# Altium footprint library MOLEX_KK254.PcbLib: 10 footprints
Each footprint in its own frame and in the unit in brackets; x right, y up, seen from the top. Pads: shape width x height; smd on the part's side, far side on the other; paste and mask are expansions set on the pad; w line width, h text height; cw(c..) or ccw(c..) is an arc to the next point about the centre after c.
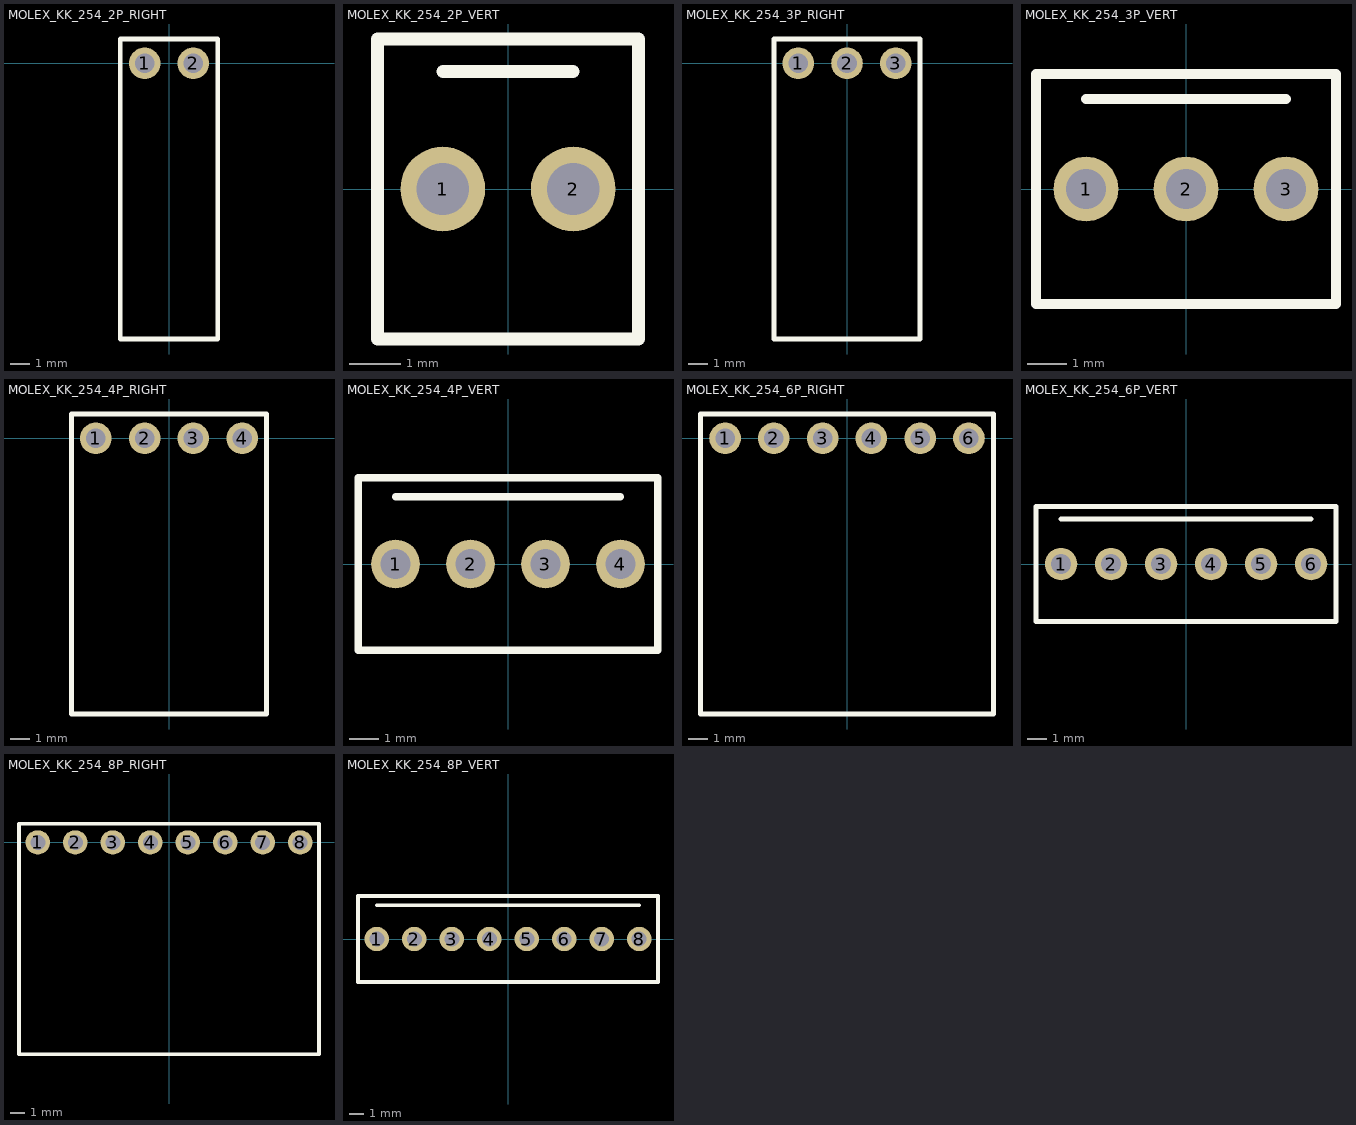
[diagram p0: the footprints below, top view; thin cyan lines are the x and y axes]

## MOLEX_KK_254_2P_RIGHT [mil]
pads (2):
  round 65 hole 40: 1(-50,0) 2(50,0)
Top Overlay:
  lines w10: -100,-565 -100,50 100,50 100,-565 -100,-565
3D body "022124022.stp": height 233, standoff -146.61, extent -99.99,-568.12 100.01,12.09

## MOLEX_KK_254_2P_VERT [mil]
pads (2):
  round 65 hole 40: 1(-50,0) 2(50,0)
Top Overlay:
  lines w10: -50,90 50,90 ; -100,-115 -100,115 100,115 100,-115 -100,-115
3D body "022292021.stp": height 463.43, standoff -137.36, extent -100,-114.17 100,114.18

## MOLEX_KK_254_3P_RIGHT [mil]
pads (3):
  round 65 hole 40: 1(-100,0) 2(0,0) 3(100,0)
Top Overlay:
  lines w10: -150,-565 -150,50 150,50 150,-565 -150,-565
3D body "022124032.stp": height 233, standoff -146.61, extent -149.99,-568.12 150.01,12.09

## MOLEX_KK_254_3P_VERT [mil]
pads (3):
  round 65 hole 40: 1(-100,0) 2(0,0) 3(100,0)
Top Overlay:
  lines w10: -100,90 100,90 ; -150,-115 150,-115 150,115 -150,115 -150,-115
3D body "022292031.stp": height 463.43, standoff -137.36, extent -150,-114.17 150,114.18

## MOLEX_KK_254_4P_RIGHT [mil]
pads (4):
  round 65 hole 40: 1(-150,0) 2(-50,0) 3(50,0) 4(150,0)
Top Overlay:
  lines w10: -200,-565 200,-565 200,50 -200,50 -200,-565
3D body "022124042.stp": height 233, standoff -146.61, extent -199.99,-568.12 200.01,12.09

## MOLEX_KK_254_4P_VERT [mil]
pads (4):
  round 65 hole 40: 1(-150,0) 2(-50,0) 3(50,0) 4(150,0)
Top Overlay:
  lines w10: -150,90 150,90 ; -200,-115 -200,115 200,115 200,-115 -200,-115
3D body "022292041.stp": height 463.43, standoff -137.36, extent -200,-114.17 200,114.18

## MOLEX_KK_254_6P_RIGHT [mil]
pads (6):
  round 65 hole 40: 1(-250,0) 2(-150,0) 3(-50,0) 4(50,0) 5(150,0) 6(250,0)
Top Overlay:
  lines w10: -300,-565 300,-565 300,50 -300,50 -300,-565
3D body "022124062.stp": height 233, standoff -146.61, extent -299.99,-568.12 300.01,12.09

## MOLEX_KK_254_6P_VERT [mil]
pads (6):
  round 65 hole 40: 1(-250,0) 2(-150,0) 3(-50,0) 4(50,0) 5(150,0) 6(250,0)
Top Overlay:
  lines w10: -250,90 250,90 ; -300,-115 300,-115 300,115 -300,115 -300,-115
3D body "022292061.stp": height 463.43, standoff -137.36, extent -300,-114.17 300,114.18

## MOLEX_KK_254_8P_RIGHT [mil]
pads (8):
  round 65 hole 40: 1(-350,0) 2(-250,0) 3(-150,0) 4(-50,0) 5(50,0) 6(150,0) 7(250,0) 8(350,0)
Top Overlay:
  lines w10: -400,-565 400,-565 400,50 -400,50 -400,-565
3D body "022124082.stp": height 233, standoff -146.61, extent -399.99,-568.12 400.01,12.09

## MOLEX_KK_254_8P_VERT [mil]
pads (8):
  round 65 hole 40: 1(-350,0) 2(-250,0) 3(-150,0) 4(-50,0) 5(50,0) 6(150,0) 7(250,0) 8(350,0)
Top Overlay:
  lines w10: -350,90 350,90 ; -400,-115 400,-115 400,115 -400,115 -400,-115
3D body "022292081.stp": height 463.43, standoff -137.36, extent -400,-114.17 400,114.18